# Altium schematic symbol library IC_DAC-ADC.SchLib: 10 symbols
Pins are listed as number, name and electrical type; pins without a type are passive.

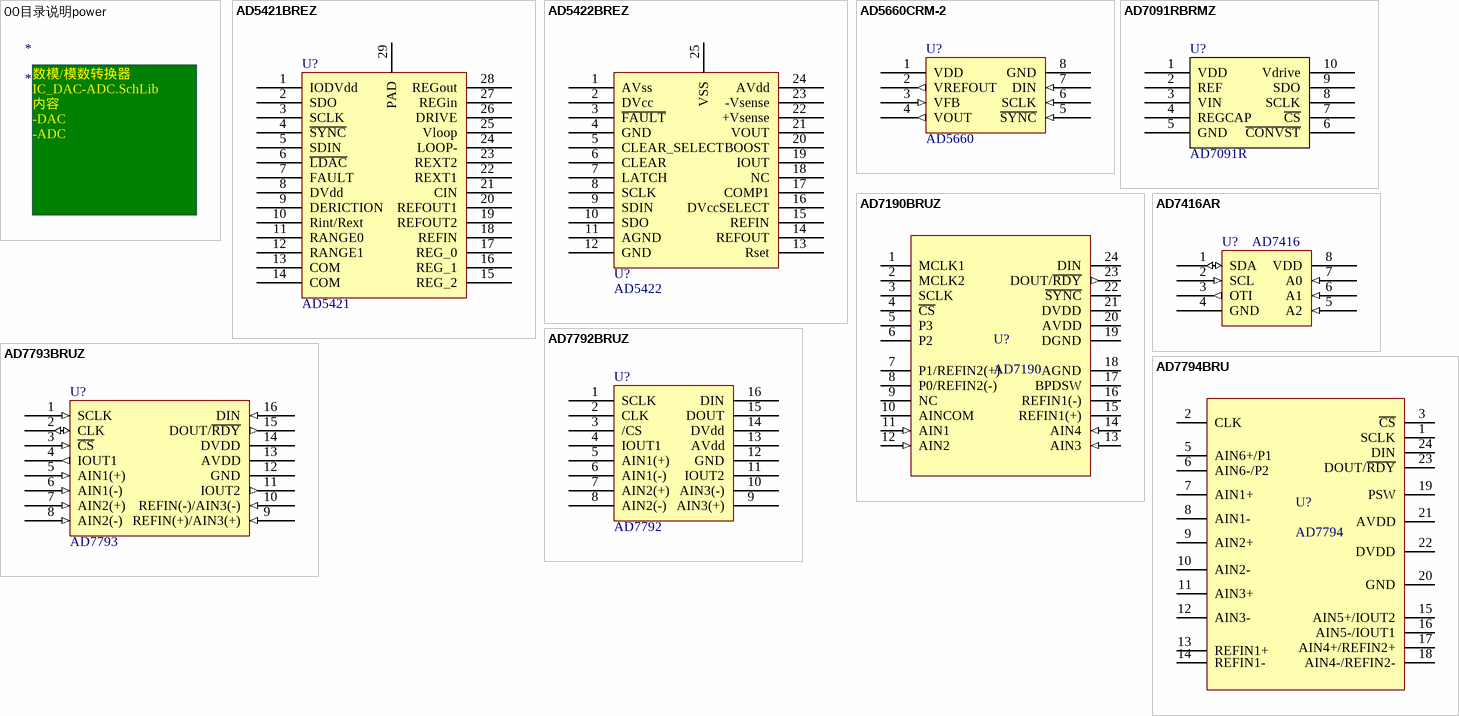
[diagram p0: symbols 00目录说明power to AD7794BRU]

## 00目录说明power
designator *
text: 数模/模数转换器IC_DAC-ADC.SchLib / 内容 / -DAC / -ADC /

## AD5421BREZ
designator U?, comment AD5421
16-Bit, Serial Input, Loop-Powered 4 mA to 20 mA DAC; Manufacturer: ADI; Name: 数模转换器; Ordering NO.: AD5421BREZ
footprint TSSOP28/0.65_9.7*4.4-T
pins: 1 IODVdd, 2 SDO, 3 SCLK, 4 ~{SYNC}, 5 SDIN, 6 ~{LDAC}, 7 FAULT, 8 DVdd, 9 DERICTION, 10 Rint/Rext, 11 RANGE0, 12 RANGE1, 13 COM, 14 COM, 15 REG_2, 16 REG_1, 17 REG_0, 18 REFIN, 19 REFOUT2, 20 REFOUT1, 21 CIN, 22 REXT1, 23 REXT2, 24 LOOP-, 25 Vloop, 26 DRIVE, 27 REGin, 28 REGout, 29 PAD

## AD5422BREZ
designator U?, comment AD5422
Single Channel, 16-Bit, Serial Input, Current  Source and Voltage Output DACs, HART Connectivity; Manufacturer: ADI; Name: 数模转换器; Ordering NO.: AD5422BREZ
footprint TSSOP24/0.65_7.8*4.4-T
pins: 1 AVss, 2 DVcc, 3 ~{FAULT}, 4 GND, 5 CLEAR_SELECT, 6 CLEAR, 7 LATCH, 8 SCLK, 9 SDIN, 10 SDO, 11 AGND, 12 GND, 13 Rset, 14 REFOUT, 15 REFIN, 16 DVccSELECT, 17 COMP1, 18 NC, 19 IOUT, 20 BOOST, 21 VOUT, 22 +Vsense, 23 -Vsense, 24 AVdd, 25 VSS

## AD5660CRM-2
designator U?, comment AD5660
±16 LSB INL, 10 ppm/°C Ref, 5 V; Manufacturer: ADI; Ordering NO.: AD5660CRM-2; Name: 数模转换器
footprint MSOP8/0.65_3*3 (MSOP,8 PIN,Pitch 0.65mm,Body 3mmX3mm)
pins: 1 VDD (power), 2 VREFOUT (out), 3 VFB (in), 4 VOUT (out), 5 ~{SYNC} (in), 6 SCLK (in), 7 DIN (in), 8 GND (power)

## AD7091RBRMZ
designator U?, comment AD7091R
单通道, 1 MSPS、超低功耗、12-Bit ADC，  采用10引脚LFCSP和MSOP封装; Manufacturer: ADI; Name: 模数转换器; Ordering NO.: AD7091RBRMZ
footprint MSOP10/0.5_3*3 (MSOP,8 PIN,Pitch 0.65mm,Body 4mmX3mm)
pins: 1 VDD, 2 REF, 3 VIN, 4 REGCAP, 5 GND, 6 ~{CONVST}, 7 ~{CS}, 8 SCLK, 9 SDO, 10 Vdrive

## AD7190BRUZ
designator U?, comment AD7190
4.8 kHz Ultralow Noise 24-Bit  Sigma-Delta ADC with PGA; Manufacturer: ADI; Ordering NO.: AD7190BRUZ; Name: 模数转换器
footprint TSSOP24/0.65_7.8*4.4 (TSOP, 24-Leads, Body 7.9x4.5mm (max), Pitch 0.65mm, IPC Medium Density)
pins: 1 MCLK1, 2 MCLK2, 3 SCLK, 4 ~{CS}, 5 P3, 6 P2, 7 P1/REFIN2(+), 8 P0/REFIN2(-), 9 NC, 10 AINCOM, 11 AIN1 (in), 12 AIN2 (in), 13 AIN3 (in), 14 AIN4 (in), 15 REFIN1(+), 16 REFIN1(-), 17 BPDSW, 18 AGND (power), 19 DGND, 20 AVDD, 21 DVDD (power), 22 ~{SYNC}, 23 DOUT/~{RDY} (out), 24 DIN

## AD7416AR
designator U?, comment AD7416
10-Bit Digital Temperature Sensor (AD7416); Manufacturer: ADI; Ordering NO.: AD7416AR; Name: 模数转换器
footprint SO8/1.27_4.9*3.9 (SOIC, 8-Leads, Body 4.9x3.9mm, Pitch 1.27mm,)
pins: 1 SDA (io), 2 SCL (in), 3 OTI (out), 4 GND (power), 5 A2 (in), 6 A1 (in), 7 A0 (in), 8 VDD (power)

## AD7792BRUZ
designator U?, comment AD7792
Low Power, 16 Bit Sigma-Delta ADC with   Low-Noise In-Amp and Embedded Reference; Manufacturer: ADI; Ordering NO.: AD7792BRUZ; Name: 模数转换器
footprint TSSOP16/0.65_5.0*4.4 (TSSOP, 16-Leads, Body 5.0x4.4mm , Pitch 0.65mm, IPC Medium Density)
pins: 1 SCLK, 2 CLK, 3 /CS, 4 IOUT1, 5 AIN1(+), 6 AIN1(-), 7 AIN2(+), 8 AIN2(-), 9 AIN3(+), 10 AIN3(-), 11 IOUT2, 12 GND, 13 AVdd, 14 DVdd, 15 DOUT, 16 DIN

## AD7793BRUZ
designator U?, comment AD7793
Low Power, 24 Bit Sigma-Delta ADC with   Low-Noise In-Amp and Embedded Reference; Manufacturer: ADI; Name: 模数转换器; Ordering NO.: AD7793BRUZ
footprint TSSOP16/0.65_5.0*4.4 (TSSOP, 16-Leads, Body 5.0x4.4mm , Pitch 0.65mm, IPC Medium Density)
pins: 1 SCLK (in), 2 CLK (io), 3 ~{CS} (in), 4 IOUT1 (out), 5 AIN1(+) (in), 6 AIN1(-) (in), 7 AIN2(+) (in), 8 AIN2(-) (in), 9 REFIN(+)/AIN3(+) (in), 10 REFIN(-)/AIN3(-) (in), 11 IOUT2 (out), 12 GND (power), 13 AVDD (power), 14 DVDD (power), 15 DOUT/~{RDY} (out), 16 DIN (in)

## AD7794BRU
designator U?, comment AD7794
6-Channel, Low Noise, Low Power, 24 Bit Σ-Δ ADCwith On-Chip In-Amp and Reference; Manufacturer: ADI; Name: 模数转换器; Ordering No.: AD7794BRU
footprint TSSOP24/0.65_7.8*4.4 (TSSOP, 24-Leads, Body 7.9x4.5mm (max), Pitch 0.65mm, IPC Medium Density)
pins: 1 SCLK, 2 CLK, 3 ~{CS}, 5 AIN6+/P1, 6 AIN6-/P2, 7 AIN1+, 8 AIN1-, 9 AIN2+, 10 AIN2-, 11 AIN3+, 12 AIN3-, 13 REFIN1+, 14 REFIN1-, 15 AIN5+/IOUT2, 16 AIN5-/IOUT1, 17 AIN4+/REFIN2+, 18 AIN4-/REFIN2-, 19 PSW, 20 GND, 21 AVDD, 22 DVDD, 23 DOUT/~{RDY}, 24 DIN